# Altium footprint library MLACHC_C.PCBLIB: 52 footprints (part 4 of 4)
Each footprint in its own frame and in the unit in brackets; x right, y up, seen from the top. Pads: shape width x height; smd on the part's side, far side on the other; paste and mask are expansions set on the pad; w line width, h text height; cw(c..) or ccw(c..) is an arc to the next point about the centre after c.
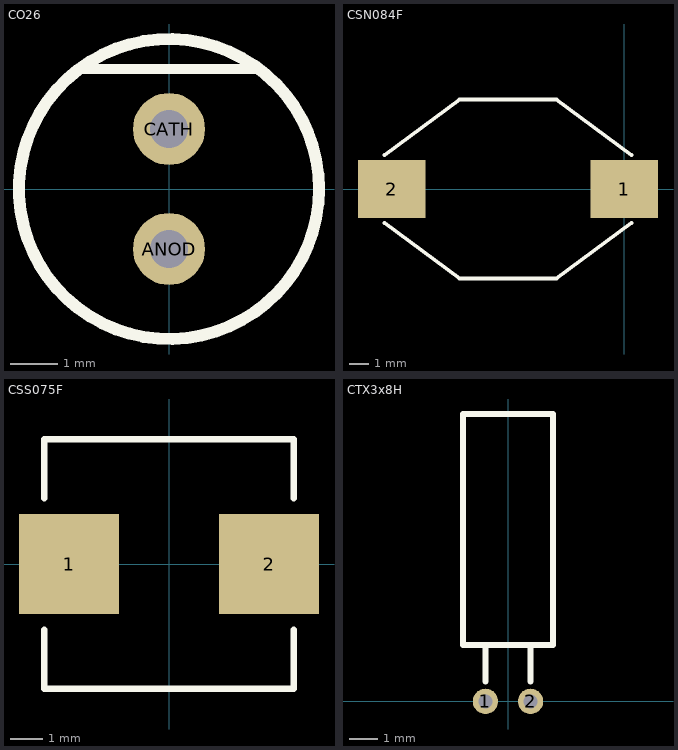
[diagram p3: the footprints below, top view; thin cyan lines are the x and y axes]

## CO26 [mil]
pads (2):
  round 60 hole 32: ANOD(0,-50) CATH(0,50)
TopOverlay:
  circle w10: c0,0 r125
  lines w8: -75,100 75,100

## CSN084F [mil]
pads (2):
  rect 140x120 smd: 1(0,0) 2(-480,0)
TopOverlay:
  lines w8: -495,-70 -340,-185 -140,-185 15,-70 ; -495,70 -340,185 -140,185 15,70

## CSS075F [mil]
pads (2):
  rect 120x120 smd: 1(-120,0) 2(120,0)
TopOverlay:
  lines w8: -149.61,-78.74 -149.61,-149.61 149.61,-149.61 149.61,-78.74 ; -149.61,78.74 -149.61,149.61 149.61,149.61 149.61,78.74

## CTX3x8H [mm]
pads (2):
  round 0.9 hole 0.5: 1(-0.8,0) 2(0.8,0)
TopOverlay:
  lines w0.203: -0.8,0.7 -0.8,2 ; 0.8,0.7 0.8,2 ; -1.6,2 1.6,2 1.6,10.2 -1.6,10.2 -1.6,2